# EAGLE library part LED_RGB_* (library LM555-SHAYAN-NOORANI)
Broadcom ASMG-PT00-00001 RGB LED Datasheet <https://docs.broadcom.com/doc/ASMG-PT00-DS100>
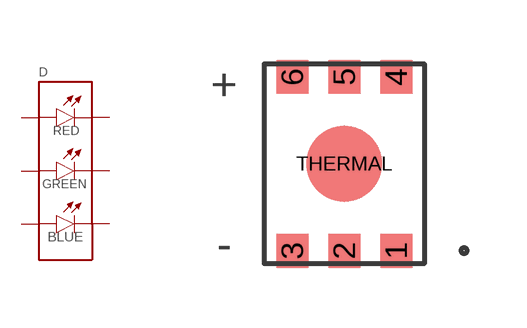
[diagram p41: symbol with the pads of ASMG-PT00-00001; footprint ASMG-PT00-00001]

Designator prefix D

## LED_RGB_ASMG-PT00-00001 (COLOR: RGB; DKPN: 516-4178-2-ND; MANUFACTURER: Broadcom Limited; MOPN: 630-ASMG-PT00-00001; MPN: ASMG-PT00-00001)  [ASMG-PT00-00001]
1  RED-  pas
2  GREEN-  pas
3  BLUE-  pas
4  RED+  pas
5  GREEN+  pas
6  BLUE+  pas
THERMAL  RED+  pas

## Footprint ASMG-PT00-00001 (pad centres in mm)
Broadcom ASMG-PT00-00001 RGB LED Datasheet <https://docs.broadcom.com/doc/ASMG-PT00-DS100>
smd 0.8 x 0.85: 1 1.3,-2.175; 2 0,-2.175; 3 -1.3,-2.175; 4 1.3,2.175; 5 0,2.175; 6 -1.3,2.175
smd 1.9 x 1.9: THERMAL 0,0